# EAGLE library part 74HC595 (library __MyCommonLib1)
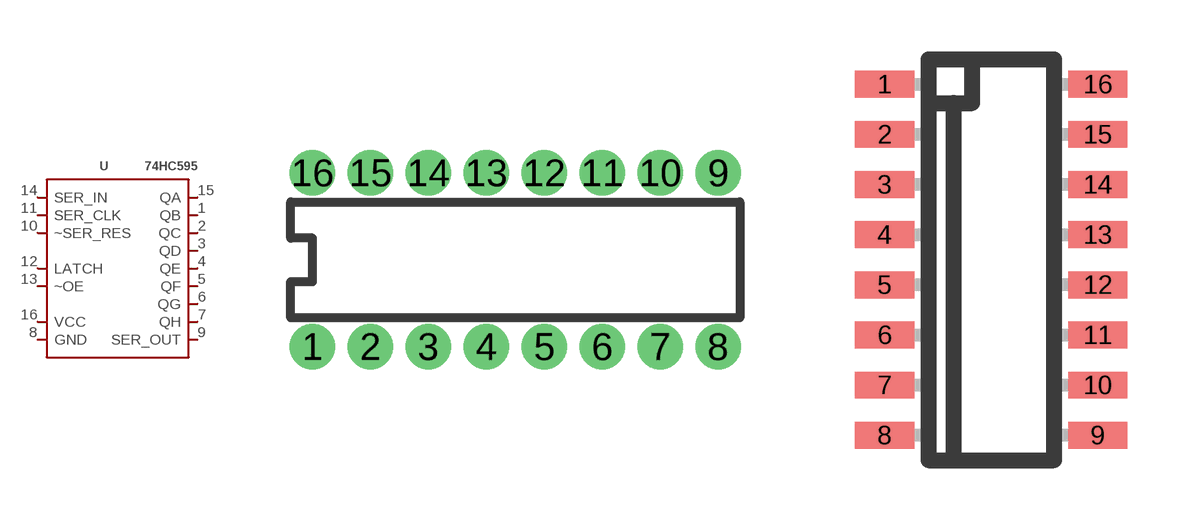
[diagram p10: symbol with the pads of DIP-16; footprints DIP-16, SOIC16]

Designator prefix -

## 74HC595(DIP-16)  [DIP-16]
1  QB
2  QC
3  QD
4  QE
5  QF
6  QG
7  QH
8  GND
9  SER_OUT
10  ~SER_RES
11  SER_CLK
12  LATCH
13  ~OE
14  SER_IN
15  QA
16  VCC

## 74HC595(SOIC16)  [SOIC16]
Pads as for DIP-16

## Footprint DIP-16 (pad centres in mm)
drill 0.9 pad 2: 1 -8.89,-3.81; 2 -6.35,-3.81; 3 -3.81,-3.81; 4 -1.27,-3.81; 5 1.27,-3.81; 6 3.81,-3.81; 7 6.35,-3.81; 8 8.89,-3.81; 9 8.89,3.81; 10 6.35,3.81; 11 3.81,3.81; 12 1.27,3.81; 13 -1.27,3.81; 14 -3.81,3.81; 15 -6.35,3.81; 16 -8.89,3.81

## Footprint SOIC16 (pad centres in mm)
smd 1.5 x 0.68: 1 -2.699,4.445; 2 -2.699,3.175; 3 -2.699,1.905; 4 -2.699,0.635; 5 -2.699,-0.635; 6 -2.699,-1.905; 7 -2.699,-3.175; 8 -2.699,-4.445; 9 2.699,-4.445; 10 2.699,-3.175; 11 2.699,-1.905; 12 2.699,-0.635; 13 2.699,0.635; 14 2.699,1.905; 15 2.699,3.175; 16 2.699,4.445